# Altium schematic symbol library ERJ-2RKF2400X.SchLib: 1 symbol
Pins are listed as number, name and electrical type; pins without a type are passive.

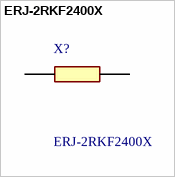
[diagram p0: symbol ERJ-2RKF2400X]

## ERJ-2RKF2400X
designator X?
Thick Film Resistors - SMD 0402 240ohms 1% AEC-Q200; Manufacturer_Name: Panasonic; Geometry.Height: 0.4mm; Manufacturer_Part_Number: ERJ-2RKF2400X; Mouser Part Number: 667-ERJ-2RKF2400X; Mouser Price/Stock: https://www.mouser.co.uk/ProductDetail/Panasonic/ERJ-2RKF2400X?qs=YMBIwoNQYdU72k3QMprnfQ%3D%3D; Arrow Part Number: ERJ-2RKF2400X; Arrow Price/Stock: https://www.arrow.com/en/products/erj-2rkf2400x/panasonic?region=nac; Datasheet Link: https://industrial.panasonic.com/cdbs/www-data/pdf/RDA0000/AOA0000C86.pdf
footprint ERJ2RKD1004X
pins: 1, 2